# Altium footprint library SULLINS_PPPC062LJBN-RC.PcbLib: 1 footprints
Each footprint in its own frame and in the unit in brackets; x right, y up, seen from the top. Pads: shape width x height; smd on the part's side, far side on the other; paste and mask are expansions set on the pad; w line width, h text height; cw(c..) or ccw(c..) is an arc to the next point about the centre after c.
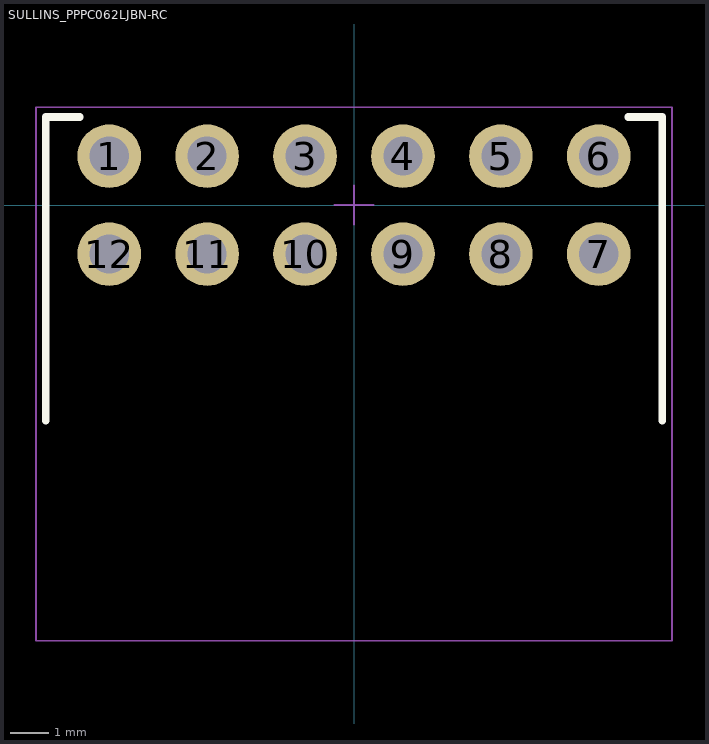
[diagram p0: the footprint, top view; thin cyan lines are the x and y axes]

## SULLINS_PPPC062LJBN-RC [mil]
pads (12):
  round 65 hole 40: 1(-250,50) 2(-150,50) 3(-50,50) 4(50,50) 5(150,50) 6(250,50) 7(250,-50) 8(150,-50) 9(50,-50) 10(-50,-50) 11(-150,-50) 12(-250,-50)
Top Overlay:
  lines w7.87: -315,-220 -315,90 -280,90 ; 280,90 315,90 315,-220
Mechanical 15:
  lines w1.97: -20,0 20,0 ; 0,-20 0,20 ; -325,-445 -325,100 325,100 325,-445 -325,-445
3D body "_ _ _C062LJBN-RC.STEP": height 200, standoff -124.02, extent -309.84,-445.51 309.84,60